# Altium schematic symbol library Components - 23.07.26 - 21.11.SchLib: 1 symbol
Pins are listed as number, name and electrical type; pins without a type are passive.

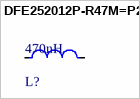
[diagram p0: symbol DFE252012P-R47M=P2]

## DFE252012P-R47M=P2
designator L?, comment 470nH
Shielded Wirewound Inductor 0.47uH 20% 4000mA 0.027Ω 1008 (2520); Test Frequency: 1MHz; Max DC Current: 4A; DC Resistance (DCR): 27mR; Core Material: Ferrite; Current Rating: 5.7A; Min Operating Temperature: -40°C; Depth: 2mm; Case/Package: 1008; Width: 0.079inch; Length: 0.098inch; Max Operating Temperature: 125°C; Tolerance: 20%; Case Code (Imperial): 1008; Mount: Surface Mount; Inductance: 470nH; Packaging: Tape and Reel; Height - Seated (Max): 0.039inch; Case Code (Metric): 2520; Resistor Type: Wirewound; Shielding: Shielded
footprint FP-DFE252012C-IPC_B
footprint FP-DFE252012C-MFG
footprint FP-DFE252012C-IPC_C
footprint FP-DFE252012C-IPC_A
pins: 1, 2